# Altium footprint library LED.PcbLib: 5 footprints
Each footprint in its own frame and in the unit in brackets; x right, y up, seen from the top. Pads: shape width x height; smd on the part's side, far side on the other; paste and mask are expansions set on the pad; w line width, h text height; cw(c..) or ccw(c..) is an arc to the next point about the centre after c.
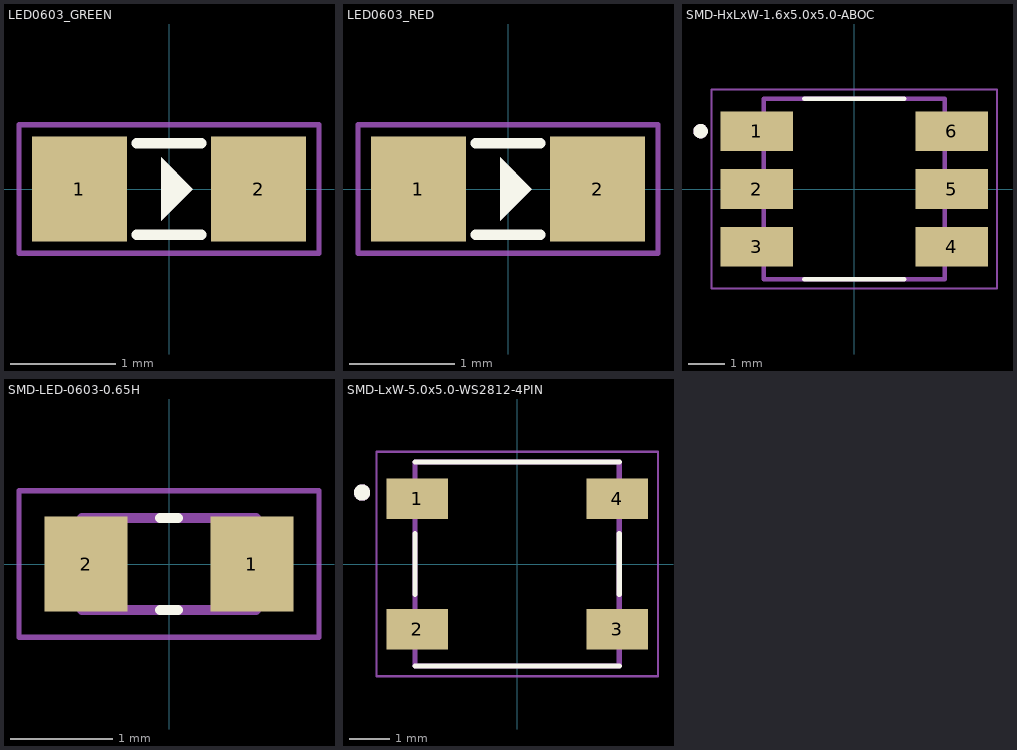
[diagram p0: the footprints below, top view; thin cyan lines are the x and y axes]

## LED0603_GREEN [mm]
pads (2):
  rect 0.9x1 smd paste+0 mask+0.051: 1(-0.85,0) 2(0.85,0)
Top Overlay:
  region: -0.073,0.3 -0.073,-0.3 0.227,0
  lines w0.1: -0.305,-0.432 0.305,-0.432 ; -0.305,0.432 0.305,0.432
Mechanical 15:
  lines w0.05: -1.422,-0.61 -1.422,0.61 1.422,0.61 1.422,-0.61 -1.422,-0.61
3D body "LED 0603 SMD-GREEN.STEP": height 0.53, standoff -0.01, extent -0.822,-0.4 0.778,0.4

## LED0603_RED [mm]
pads (2):
  rect 0.9x1 smd paste+0 mask+0.051: 1(-0.85,0) 2(0.85,0)
Top Overlay:
  region: -0.073,0.3 -0.073,-0.3 0.227,0
  lines w0.1: -0.305,-0.432 0.305,-0.432 ; -0.305,0.432 0.305,0.432
Mechanical 15:
  lines w0.05: -1.422,-0.61 1.422,-0.61 1.422,0.61 -1.422,0.61 -1.422,-0.61
3D body "LED 0603 SMD-RED-c.STEP": height 0.53, standoff -0.01, extent -0.822,-0.4 0.778,0.4

## SMD-HxLxW-1.6x5.0x5.0-ABOC [mm]
height 1.5
pads (6):
  rect 2x1.1 smd: 1(-2.7,1.6) 2(-2.7,0) 3(-2.7,-1.6) 4(2.7,-1.6) 5(2.7,0) 6(2.7,1.6)
Top Overlay:
  circle w0.2: c-4.25,1.6 r0.1
  lines w0.127: -1.38,-2.5 1.38,-2.5 ; -1.38,2.5 1.38,2.5
Mechanical 1:
  lines w0.127: -2.5,-2.5 2.5,-2.5 2.5,2.5 -2.5,2.5 -2.5,-2.5
Mechanical 13:
  circle w0.2: c-4.25,1.6 r0.1
  lines w0.127: -2.5,-2.5 2.5,-2.5 2.5,2.5 -2.5,2.5 -2.5,-2.5
Mechanical 15:
  lines w0.05: -3.95,-2.75 3.95,-2.75 3.95,2.75 -3.95,2.75 -3.95,-2.75
Mechanical 29:
  lines w0.05: -3.95,-2.75 3.95,-2.75 3.95,2.75 -3.95,2.75 -3.95,-2.75
  text "'.Designator'" at -3.81,-0.508 h1.52
3D body "LTST-G563EGBW.step": height 1.6, standoff 0, extent -2.7,-2.5 2.7,2.5

## SMD-LED-0603-0.65H [mm]
pads (2):
  rect 0.81x0.93 smd: 1(0.81,0) 2(-0.81,0)
Top Overlay:
  lines w0.1: -0.085,-0.45 0.085,-0.45 ; -0.085,0.45 0.085,0.45
Mechanical 1:
  lines w0.1: -0.85,-0.45 0.85,-0.45 0.85,0.45 -0.85,0.45 -0.85,-0.45
Mechanical 13:
  lines w0.1: -0.85,-0.45 0.85,-0.45 0.85,0.45 -0.85,0.45 -0.85,-0.45
Mechanical 15:
  lines w0.05: -1.465,-0.715 1.465,-0.715 1.465,0.715 -1.465,0.715 -1.465,-0.715
Mechanical 29:
  lines w0.05: -1.465,-0.715 1.465,-0.715 1.465,0.715 -1.465,0.715 -1.465,-0.715
  text "'.Designator'" at -1.016,-0.127 h0.4
3D body "LTST-C194KRKT.STEP": height 0.35, standoff 0, extent -0.8,-0.4 0.8,0.4

## SMD-LxW-5.0x5.0-WS2812-4PIN [mm]
height 1.6
pads (4):
  rect 1.5x1 smd: 1(-2.45,1.6) 2(-2.45,-1.6) 3(2.45,-1.6) 4(2.45,1.6)
Top Overlay:
  circle w0.2: c-3.8,1.75 r0.1
  lines w0.127: -2.5,-2.5 2.5,-2.5 ; -2.5,-0.75 -2.5,0.75 ; -2.5,2.5 2.5,2.5 ; 2.5,-0.75 2.5,0.75
Mechanical 1:
  lines w0.127: -2.5,-2.5 -2.5,2.5 2.5,2.5 2.5,-2.5 -2.5,-2.5
Mechanical 13:
  circle w0.2: c-3.8,1.75 r0.1
  lines w0.127: -2.5,-2.5 -2.5,2.5 2.5,2.5 2.5,-2.5 -2.5,-2.5
Mechanical 15:
  lines w0.05: -3.45,-2.75 -3.45,2.75 3.45,2.75 3.45,-2.75 -3.45,-2.75
Mechanical 29:
  lines w0.05: -3.45,-2.75 -3.45,2.75 3.45,2.75 3.45,-2.75 -3.45,-2.75
  text "'.Designator'" at -3.429,-0.508 h1.52
3D body "COM-16347_SPK.step": height 1.6, standoff 0, extent -2.705,-2.502 2.705,2.502